# EAGLE library part TMC2130 (library CougsInSpace)
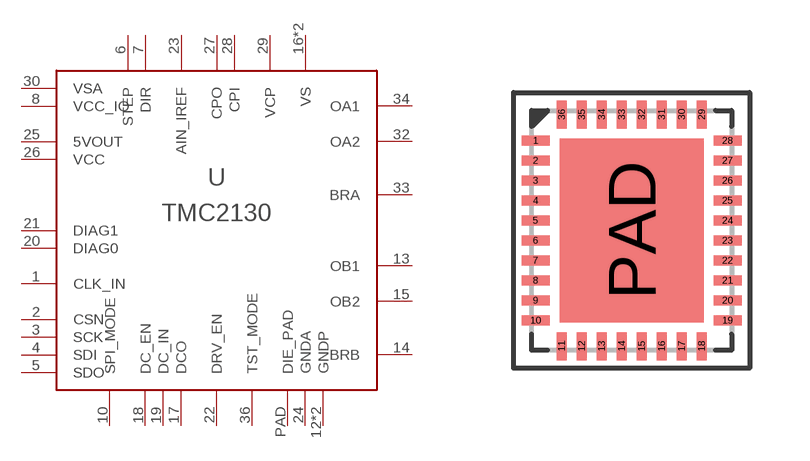
[diagram p4: symbol with the pads of QFN36-5X6; footprint QFN36-5X6]

Designator prefix U

## TMC2130  [QFN36-5X6]
1  CLK_IN  in
2  CSN  in
3  SCK  in
4  SDI  in
5  SDO  out
6  STEP  in
7  DIR  in
8  VCC_IO  pwr
10  SPI_MODE
12  GNDP  pwr
13  OB1
14  BRB  pas
15  OB2
16  VS  pwr
17  DCO  out
18  DC_EN  in
19  DC_IN  in
20  DIAG0  out
21  DIAG1  out
22  DRV_EN  in
23  AIN_IREF
24  GNDA  pwr
25  5VOUT  pwr
26  VCC  pwr
27  CPO  pas
28  CPI  pas
29  VCP  pwr
30  VSA  pwr
31  VS  pwr
32  OA2
33  BRA  pas
34  OA1
35  GNDP  pwr
36  TST_MODE  in
PAD  DIE_PAD  pwr

## Footprint QFN36-5X6 (pad centres in mm)
smd 0.7 x 0.25: 1 -2.4,2.25; 2 -2.4,1.75; 3 -2.4,1.25; 4 -2.4,0.75; 5 -2.4,0.25; 6 -2.4,-0.25; 7 -2.4,-0.75; 8 -2.4,-1.25; 9 -2.4,-1.75; 10 -2.4,-2.25; 19 2.4,-2.25; 20 2.4,-1.75; 21 2.4,-1.25; 22 2.4,-0.75; 23 2.4,-0.25; 24 2.4,0.25; 25 2.4,0.75; 26 2.4,1.25; 27 2.4,1.75; 28 2.4,2.25
smd 0.25 x 0.7: 11 -1.75,-2.9; 12 -1.25,-2.9; 13 -0.75,-2.9; 14 -0.25,-2.9; 15 0.25,-2.9; 16 0.75,-2.9; 17 1.25,-2.9; 18 1.75,-2.9; 29 1.75,2.9; 30 1.25,2.9; 31 0.75,2.9; 32 0.25,2.9; 33 -0.25,2.9; 34 -0.75,2.9; 35 -1.25,2.9; 36 -1.75,2.9
smd 3.6 x 4.6: PAD 0,0